# EAGLE library part LC86LICMD (library LC86LICMD)
Quectel Wireless Solutions Source: Datasheet <https://cdn.sos.sk/productdata/39/c0/eb20bda6/lc86l.pdf>
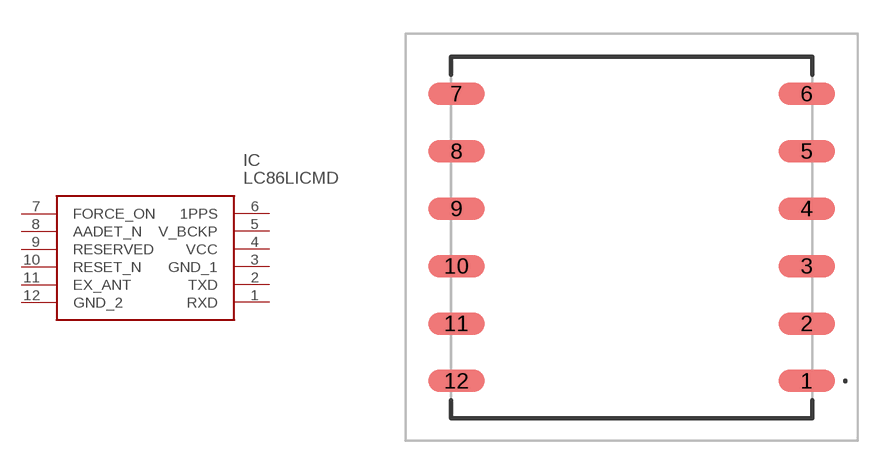
[diagram p0: symbol with the pads of LC86LICMD; footprint LC86LICMD]

Designator prefix IC

## LC86LICMD (Description: Quectel Wireless Solutions; Height: 7.05mm; Manufacturer_Name: Quectel; Manufacturer_Part_Number: LC86LICMD; Mouser_Part_Number: 277-LC86LICMD; Mouser_Price-Stock: https://www.mouser.co.uk/ProductDetail/Quectel/LC86LICMD?qs=iLbezkQI%252BsiFPFQjIwBL1Q%3D%3D)  [LC86LICMD]
1  RXD
2  TXD
3  GND_1
4  VCC
5  V_BCKP
6  1PPS
7  FORCE_ON
8  AADET_N
9  RESERVED
10  RESET_N
11  EX_ANT
12  GND_2

## Footprint LC86LICMD (pad centres in mm)
LC86LICMD-1
smd 2.5 x 1: 1 7.75,-6.35; 2 7.75,-3.81; 3 7.75,-1.27; 4 7.75,1.27; 5 7.75,3.81; 6 7.75,6.35; 7 -7.75,6.35; 8 -7.75,3.81; 9 -7.75,1.27; 10 -7.75,-1.27; 11 -7.75,-3.81; 12 -7.75,-6.35